# Altium integrated library Altium Database Library V2.IntLib: 825 symbols (part 40 of 40)

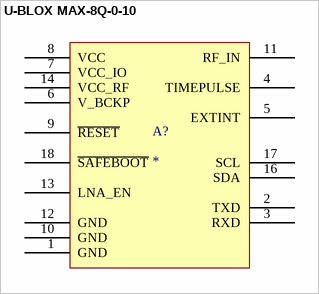
[diagram p817: symbol U-BLOX MAX-8Q-0-10]

## U-BLOX MAX-8Q-0-10
designator A?
pins: 1 GND, 2 TXD, 3 RXD, 4 TIMEPULSE, 5 EXTINT, 6 V_BCKP, 7 VCC_IO, 8 VCC, 9 ~{RESET}, 10 GND, 11 RF_IN, 12 GND, 13 LNA_EN, 14 VCC_RF, 16 SDA, 17 SCL, 18 ~{SAFEBOOT}


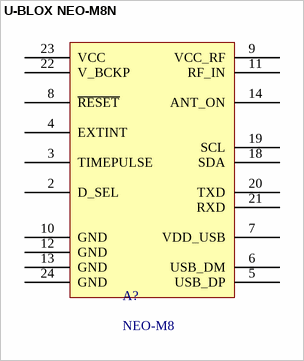
[diagram p818: symbol U-BLOX NEO-M8N]

## U-BLOX NEO-M8N
designator A?, comment NEO-M8
u-blox NEO GPS Module
pins: 2 D_SEL, 3 TIMEPULSE, 4 EXTINT, 5 USB_DP, 6 USB_DM, 7 VDD_USB, 8 ~{RESET}, 9 VCC_RF, 10 GND, 11 RF_IN, 12 GND, 13 GND, 14 ANT_ON, 18 SDA, 19 SCL, 20 TXD, 21 RXD, 22 V_BCKP, 23 VCC, 24 GND


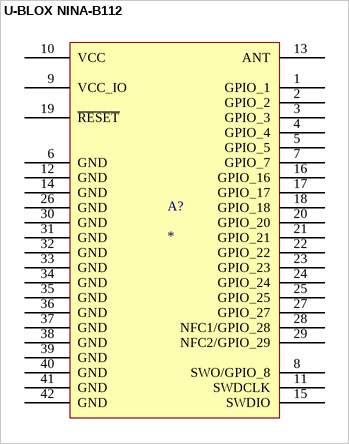
[diagram p819: symbol U-BLOX NINA-B112]

## U-BLOX NINA-B112
designator A?
pins: 1 GPIO_1, 2 GPIO_2, 3 GPIO_3, 4 GPIO_4, 5 GPIO_5, 6 GND, 7 GPIO_7, 8 SWO/GPIO_8, 9 VCC_IO, 10 VCC, 11 SWDCLK, 12 GND, 13 ANT, 14 GND, 15 SWDIO, 16 GPIO_16, 17 GPIO_17, 18 GPIO_18, 19 ~{RESET}, 20 GPIO_20, 21 GPIO_21, 22 GPIO_22, 23 GPIO_23, 24 GPIO_24, 25 GPIO_25, 26 GND, 27 GPIO_27, 28 NFC1/GPIO_28, 29 NFC2/GPIO_29, 30 GND, 31 GND, 32 GND, 33 GND, 34 GND, 35 GND, 36 GND, 37 GND, 38 GND, 39 GND, 40 GND, 41 GND, 42 GND


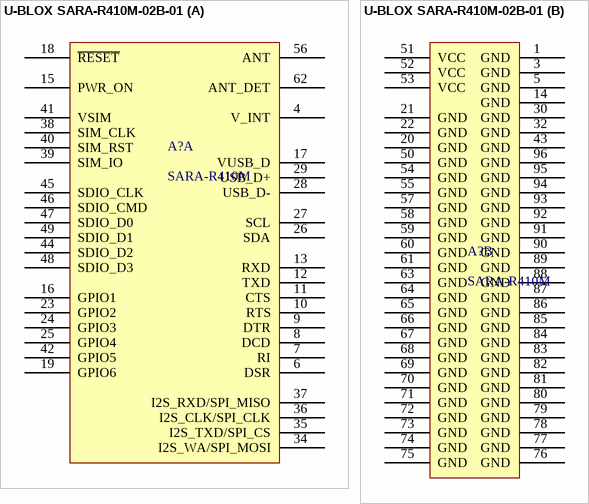
[diagram p820: symbol U-BLOX SARA-R410M-02B-01]

## U-BLOX SARA-R410M-02B-01
designator A?, comment SARA-R410M
u-blox RF TXRX CELL 4G LTE CATM1/NB-IOT
part A pins: 4 V_INT, 6 DSR, 7 RI, 8 DCD, 9 DTR, 10 RTS, 11 CTS, 12 TXD, 13 RXD, 15 PWR_ON, 16 GPIO1, 17 VUSB_D, 18 ~{RESET}, 19 GPIO6, 23 GPIO2, 24 GPIO3, 25 GPIO4, 26 SDA, 27 SCL, 28 USB_D-, 29 USB_D+, 34 I2S_WA/SPI_MOSI, 35 I2S_TXD/SPI_CS, 36 I2S_CLK/SPI_CLK, 37 I2S_RXD/SPI_MISO, 38 SIM_CLK, 39 SIM_IO, 40 SIM_RST, 41 VSIM, 42 GPIO5, 44 SDIO_D2, 45 SDIO_CLK, 46 SDIO_CMD, 47 SDIO_D0, 48 SDIO_D3, 49 SDIO_D1, 56 ANT, 62 ANT_DET
part B pins: 1 GND, 3 GND, 5 GND, 14 GND, 20 GND, 21 GND, 22 GND, 30 GND, 32 GND, 43 GND, 50 GND, 51 VCC, 52 VCC, 53 VCC, 54 GND, 55 GND, 57 GND, 58 GND, 59 GND, 60 GND, 61 GND, 63 GND, 64 GND, 65 GND, 66 GND, 67 GND, 68 GND, 69 GND, 70 GND, 71 GND, 72 GND, 73 GND, 74 GND, 75 GND, 76 GND, 77 GND, 78 GND, 79 GND, 80 GND, 81 GND, 82 GND, 83 GND, 84 GND, 85 GND, 86 GND, 87 GND, 88 GND, 89 GND, 90 GND, 91 GND, 92 GND, 93 GND, 94 GND, 95 GND, 96 GND


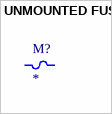
[diagram p821: symbol UNMOUNTED FUSE]

## UNMOUNTED FUSE
designator M?


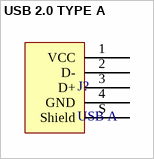
[diagram p822: symbol USB 2.0 TYPE A]

## USB 2.0 TYPE A
designator J?, comment USB A
pins: 1 VCC, 2 D-, 3 D+, 4 GND, S Shield


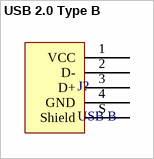
[diagram p823: symbol USB 2.0 Type B]

## USB 2.0 Type B
designator J?, comment USB B
pins: 1 VCC, 2 D-, 3 D+, 4 GND, S Shield


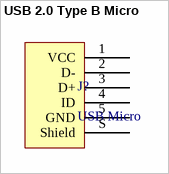
[diagram p824: symbol USB 2.0 Type B Micro]

## USB 2.0 Type B Micro
designator J?, comment USB Micro
pins: 1 VCC, 2 D-, 3 D+, 4 ID, 5 GND, S Shield


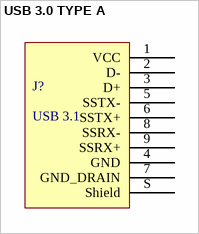
[diagram p825: symbol USB 3.0 TYPE A]

## USB 3.0 TYPE A
designator J?, comment USB 3.1
pins: 1 VCC, 2 D-, 3 D+, 4 GND, 5 SSTX-, 6 SSTX+, 7 GND_DRAIN, 8 SSRX-, 9 SSRX+, S Shield


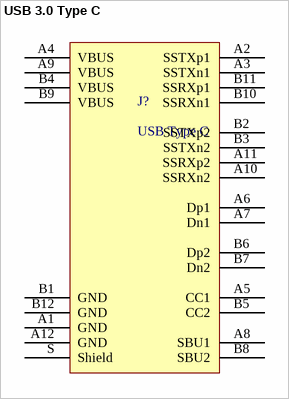
[diagram p826: symbol USB 3.0 Type C]

## USB 3.0 Type C
designator J?, comment USB Type C
pins: A1 GND, A2 SSTXp1, A3 SSTXn1, A4 VBUS, A5 CC1, A6 Dp1, A7 Dn1, A8 SBU1, A9 VBUS, A10 SSRXn2, A11 SSRXp2, A12 GND, B1 GND, B2 SSTXp2, B3 SSTXn2, B4 VBUS, B5 CC2, B6 Dp2, B7 Dn2, B8 SBU2, B9 VBUS, B10 SSRXn1, B11 SSRXp1, B12 GND, S Shield


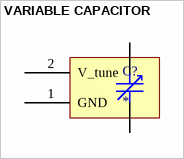
[diagram p827: symbol VARIABLE CAPACITOR]

## VARIABLE CAPACITOR
designator C?
pins: 1 GND, 2 V_tune, 3, 4


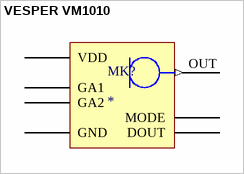
[diagram p828: symbol VESPER VM1010]

## VESPER VM1010
designator MK?
pins: DOUT, G GND, GA1, GA2, MODE, OUT (out), VDD


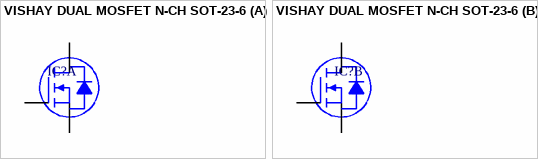
[diagram p829: symbol VISHAY DUAL MOSFET N-CH SOT-23-6]

## VISHAY DUAL MOSFET N-CH SOT-23-6
designator IC?
part A pins: 1 G1, 5 S1, 6 D1
part B pins: 2 S2, 3 G2, 4 D2


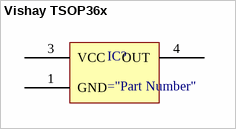
[diagram p830: symbol Vishay TSOP36x]

## Vishay TSOP36x
designator IC?
pins: 1 GND, 3 VCC, 4 OUT


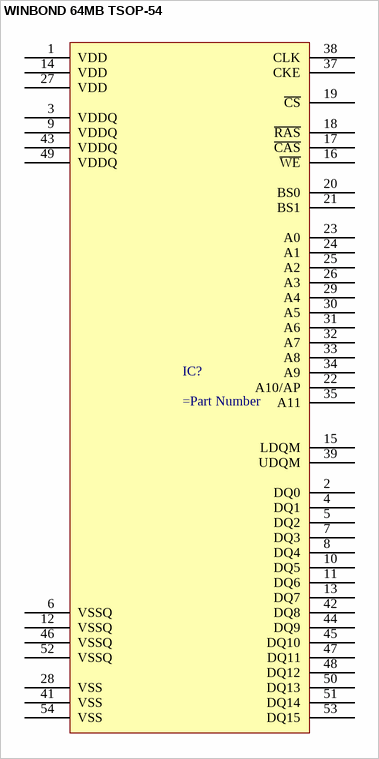
[diagram p831: symbol WINBOND 64MB TSOP-54]

## WINBOND 64MB TSOP-54
designator IC?
pins: 1 VDD, 2 DQ0, 3 VDDQ, 4 DQ1, 5 DQ2, 6 VSSQ, 7 DQ3, 8 DQ4, 9 VDDQ, 10 DQ5, 11 DQ6, 12 VSSQ, 13 DQ7, 14 VDD, 15 LDQM, 16 ~{WE}, 17 ~{CAS}, 18 ~{RAS}, 19 ~{CS}, 20 BS0, 21 BS1, 22 A10/AP, 23 A0, 24 A1, 25 A2, 26 A3, 27 VDD, 28 VSS, 29 A4, 30 A5, 31 A6, 32 A7, 33 A8, 34 A9, 35 A11, 37 CKE, 38 CLK, 39 UDQM, 41 VSS, 42 DQ8, 43 VDDQ, 44 DQ9, 45 DQ10, 46 VSSQ, 47 DQ11, 48 DQ12, 49 VDDQ, 50 DQ13, 51 DQ14, 52 VSSQ, 53 DQ15, 54 VSS


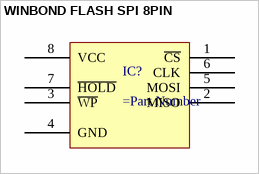
[diagram p832: symbol WINBOND FLASH SPI 8PIN]

## WINBOND FLASH SPI 8PIN
designator IC?
pins: 1 ~{CS}, 2 MISO, 3 ~{WP}, 4 GND, 5 MOSI, 6 CLK, 7 ~{HOLD}, 8 VCC


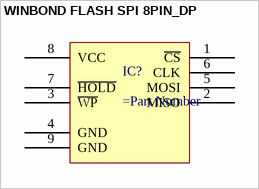
[diagram p833: symbol WINBOND FLASH SPI 8PIN_DP]

## WINBOND FLASH SPI 8PIN_DP
designator IC?
pins: 1 ~{CS}, 2 MISO, 3 ~{WP}, 4 GND, 5 MOSI, 6 CLK, 7 ~{HOLD}, 8 VCC, 9 GND


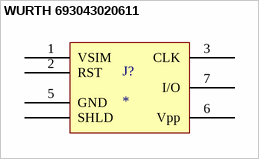
[diagram p834: symbol WURTH 693043020611]

## WURTH 693043020611
designator J?
pins: 1 VSIM, 2 RST, 3 CLK, 5 GND, 6 Vpp, 7 I/O, S SHLD


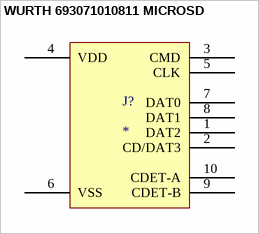
[diagram p835: symbol WURTH 693071010811 MICROSD]

## WURTH 693071010811 MICROSD
designator J?
pins: 1 DAT2, 2 CD/DAT3, 3 CMD, 4 VDD, 5 CLK, 6 VSS, 7 DAT0, 8 DAT1, 9 CDET-B, 10 CDET-A